# Altium schematic symbol library Schlib1.SchLib: 19 symbols
Pins are listed as number, name and electrical type; pins without a type are passive.

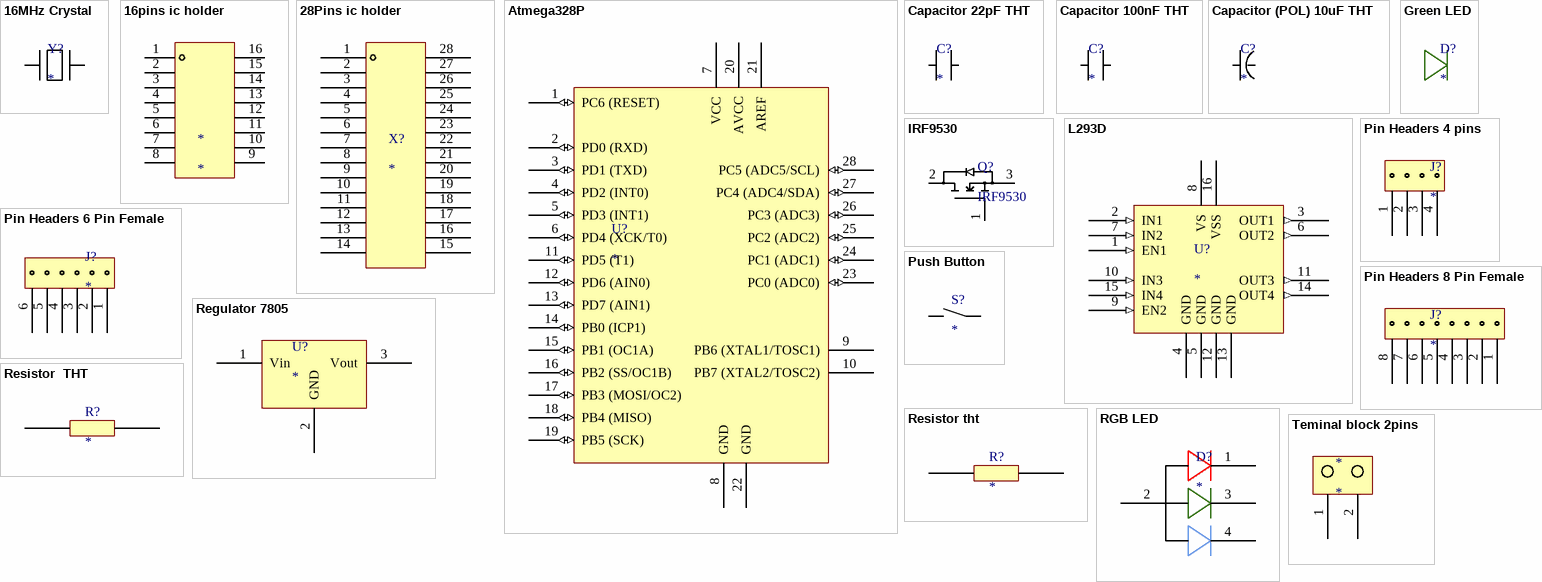
[diagram p0: symbols 16MHz Crystal to Teminal block 2pins]

## 16MHz Crystal
designator Y?
footprint Crystal 16MHz
pins: 1, 2

## 16pins ic holder
designator *
footprint 16  PINS IC HOLDER
pins: 1, 2, 3, 4, 5, 6, 7, 8, 9, 10, 11, 12, 13, 14, 15, 16

## 28Pins ic holder
designator X?
footprint 28 pins ic holder
pins: 1, 2, 3, 4, 5, 6, 7, 8, 9, 10, 11, 12, 13, 14, 15, 16, 17, 18, 19, 20, 21, 22, 23, 24, 25, 26, 27, 28

## Atmega328P
designator U?
Parameter 1: *; Parameter 2: *; Parameter 3: *; Parameter 4: *
footprint Atmega328P
pins: 1 PC6 (RESET) (io), 2 PD0 (RXD) (io), 3 PD1 (TXD) (io), 4 PD2 (INT0) (io), 5 PD3 (INT1) (io), 6 PD4 (XCK/T0) (io), 7 VCC (power), 8 GND (power), 9 PB6 (XTAL1/TOSC1), 10 PB7 (XTAL2/TOSC2), 11 PD5 (T1) (io), 12 PD6 (AIN0) (io), 13 PD7 (AIN1)  (io), 14 PB0 (ICP1) (io), 15 PB1 (OC1A) (io), 16 PB2 (SS/OC1B) (io), 17 PB3 (MOSI/OC2) (io), 18 PB4 (MISO) (io), 19 PB5 (SCK) (io), 20 AVCC (power), 21 AREF (power), 22 GND (power), 23 PC0 (ADC0) (io), 24 PC1 (ADC1) (io), 25 PC2 (ADC2) (io), 26 PC3 (ADC3) (io), 27 PC4 (ADC4/SDA) (io), 28 PC5 (ADC5/SCL) (io)

## Capacitor 22pF THT
designator C?
footprint Capacitor 22pF THT
pins: 1, 2

## Capacitor 100nF THT
designator C?
footprint Capacitor 100nF THT
pins: 1, 2

## Capacitor (POL) 10uF THT
designator C?
footprint Pol cap 10uF
pins: 1, 2

## Green LED
designator D?
footprint Green Led 5mm
pins: 1, 2

## IRF9530
designator Q?
footprint IRF9530
pins: 1 G, 2 D, 3 S

## L293D
designator U?
footprint L293D
pins: 1 EN1 (in), 2 IN1 (in), 3 OUT1 (out), 4 GND (power), 5 GND (power), 6 OUT2 (out), 7 IN2 (in), 8 VS (power), 9 EN2 (in), 10 IN3 (in), 11 OUT3 (out), 12 GND (power), 13 GND (power), 14 OUT4 (out), 15 IN4 (in), 16 VSS (power)

## Pin Headers 4 pins
designator J?
footprint Pin Headers 4 pins
pins: 1, 2, 3, 4

## Pin Headers 6 Pin Female
designator J?
footprint Pin Header 6 Pin Female
pins: 1, 2, 3, 4, 5, 6

## Pin Headers 8 Pin Female
designator J?
footprint Pin Headers 8 Pin Female
pins: 1, 2, 3, 4, 5, 6, 7, 8

## Push Button
designator S?
footprint PushButton 2 pins
pins: 1, 2

## Regulator 7805
designator U?
footprint Regulator LM7805 THT
pins: 1 Vin, 2 GND, 3 Vout

## Resistor  THT
designator R?
footprint Carbon Resistor 10k Ohm 0.25W
pins: 1, 2

## Resistor tht
designator R?
footprint Carbon Resistor 1k Ohm 0.25W
pins: 1, 2

## RGB LED
designator D?
footprint RGB LED Common Anode
pins: 1, 2, 3, 4

## Teminal block 2pins
designator *
footprint Terminal Block
pins: 1, 2